# EAGLE library part IM01JR (library PocketCube)
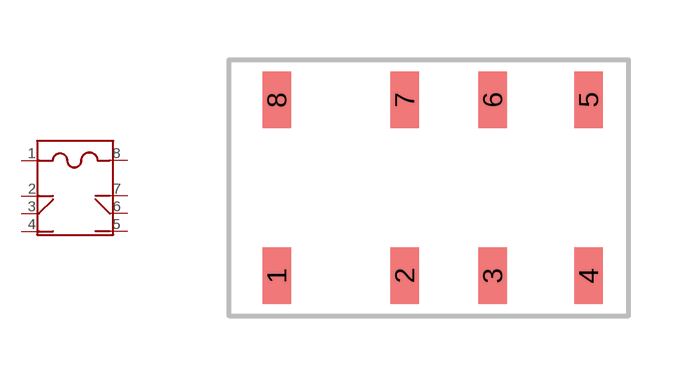
[diagram p22: symbol with the pads of IM01JR; footprint IM01JR]

Designator prefix -

## IM01JR  [IM01JR]
1  P$1
2  P$2
3  P$3
4  P$4
5  P$5
6  P$6
7  P$7
8  P$8

## Footprint IM01JR (pad centres in mm)
smd 0.711 x 1.422: 1 0,0; 2 3.2,0; 3 5.4,0; 4 7.8,0; 5 7.8,4.4; 6 5.4,4.4; 7 3.2,4.4; 8 0,4.4